# Altium footprint library USB Type B Right Angle.PcbLib: 1 footprints
Each footprint in its own frame and in the unit in brackets; x right, y up, seen from the top. Pads: shape width x height; smd on the part's side, far side on the other; paste and mask are expansions set on the pad; w line width, h text height; cw(c..) or ccw(c..) is an arc to the next point about the centre after c.
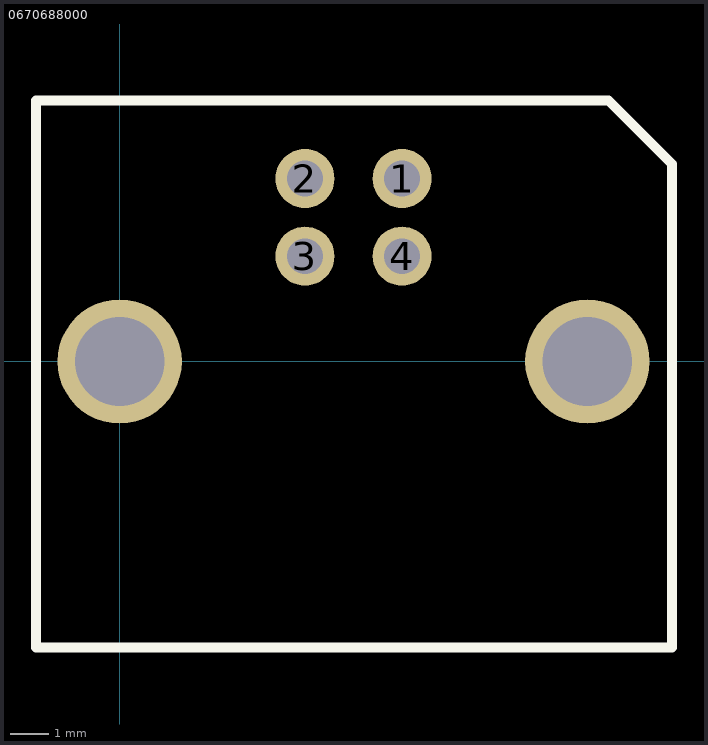
[diagram p0: the footprint, top view; thin cyan lines are the x and y axes]

## 0670688000 [mm] "USB Type B connector"
pads (6):
  round 1.52 hole 0.92: 1(7.27,4.71) 2(4.77,4.71) 3(4.77,2.71) 4(7.27,2.71)
  round 3.2 hole 2.3: ""(0,0) ""(12.04,0)
Top Overlay:
  lines w0.254: -2.159,-7.366 -2.159,6.72 12.584,6.72 14.224,5.08 14.224,-7.366 -2.159,-7.366
3D body "670688000.stp": height 11, standoff -4.22, extent -1.461,-10.28 13.399,6.72